# Altium footprint library MY_PCB_Lib.PcbLib: 310 footprints (part 3 of 20)
Each footprint in its own frame and in the unit in brackets; x right, y up, seen from the top. Pads: shape width x height; smd on the part's side, far side on the other; paste and mask are expansions set on the pad; w line width, h text height; cw(c..) or ccw(c..) is an arc to the next point about the centre after c.
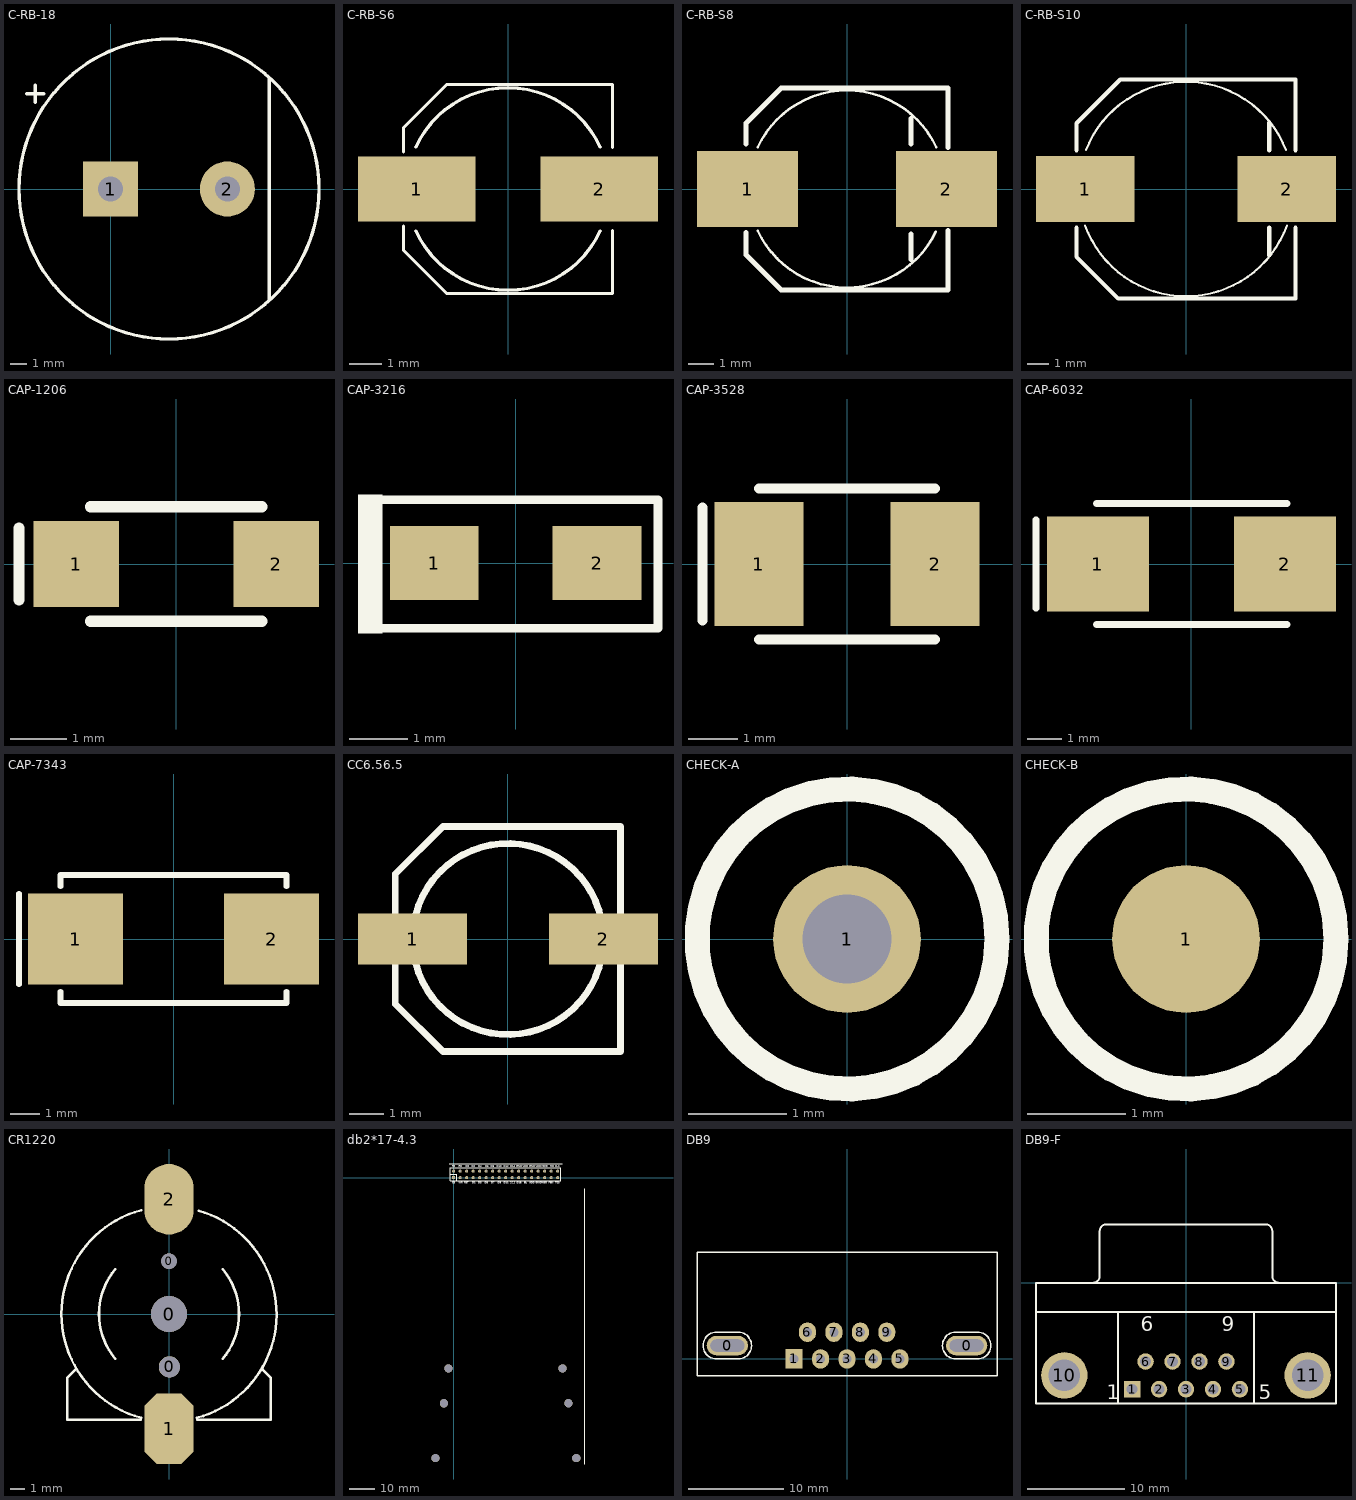
[diagram p2: the footprints below, top view; thin cyan lines are the x and y axes]

## C-RB-18 [mm] "35V2200uF电容"
height 20
pads (2):
  rect 3.3x3.3 hole 1.5: 1(0,0)
  round 3.3 hole 1.5: 2(7,0)
Top Overlay:
  circle w0.2: c3.5,0 r9
  lines w0.2: -5.037,5.715 -4.021,5.715 ; -4.529,5.207 -4.529,6.223 ; 9.525,-6.604 9.525,6.604

## C-RB-S6 [mm] "贴片电解"
height 7
pads (2):
  rect 3.6x2 smd: 1(-2.794,0) 2(2.794,0)
Top Overlay:
  lines w0.1: -3.2,-1.143 -3.2,-1.88 -1.88,-3.2 3.2,-3.2 3.2,-1.27 ; -3.2,1.143 -3.2,1.88 -1.88,3.2 3.2,3.2 3.2,1.27 ; -2.822,-1.283 ccw(c0,0) 2.822,-1.283 ; -2.822,1.283 cw(c0,0) 2.822,1.283

## C-RB-S8 [mm] "贴片电解"
height 10.2
pads (2):
  rect 4x3 smd: 1(-3.937,0) 2(3.937,0)
Top Overlay:
  lines w0.1: -3.539,-1.643 ccw(c0,0) 3.516,-1.693 ; -3.539,1.643 cw(c0,0) 3.539,1.643
  lines w0.2: -4,-1.714 -4,-2.604 -2.604,-4 4,-4 4,-1.651 ; -4,1.778 -4,2.604 -2.604,4 4,4 4,1.651 ; 2.54,-2.794 2.54,-1.778 ; 2.54,1.778 2.54,2.794
3D body: height 0.6, standoff 0, extent -3.937,-3.937 3.937,3.937
3D body: height 10.9, standoff 0.9, extent -3.849,-3.872 3.88,3.872

## C-RB-S10 [mm] "贴片电解"
height 10.2
pads (2):
  rect 4.5x3 smd: 1(-4.6,0) 2(4.6,0)
Top Overlay:
  lines w0.1: -4.609,-1.664 ccw(c0,0) 4.609,-1.664 ; -4.567,1.776 cw(c0,0) 4.567,1.776
  lines w0.2: -5,-1.778 -5,-3.1 -3.1,-5 5,-5 5,-1.778 ; -5,1.778 -5,3 -3,5 5,5 5,1.778 ; 3.8,-3.032 3.8,-1.778 ; 3.8,1.778 3.8,3.032

## CAP-1206 [mil] "贴片元件"
height 59.06
pads (2):
  rect 60x60 smd: 1(-70,0) 2(70,0)
Top Overlay:
  lines w7.87: -110,-25 -110,25 ; -60,-40 60,-40 ; -60,40 60,40
3D body: height 39.37, standoff 0, extent -55,-35 55,35
3D body: height 39.37, standoff 0, extent 45,-35 65,35
3D body: height 39.37, standoff 0, extent -65,-35 -45,35

## CAP-3216 [mil] "钽电容"
height 78.74
pads (2):
  rect 60x50 smd: 1(-55,0) 2(55,0)
Top Overlay:
  region: -90,46.39 -106.46,46.39 -106.46,-47.61 -90,-47.61
  lines w5.91: -94.83,-43.92 96.11,-43.92 96.11,42.69 -94.83,42.69

## CAP-3528 [mm] "钽电容"
height 3
pads (2):
  rect 1.8x2.5 smd: 1(-1.778,0) 2(1.778,0)
Top Overlay:
  lines w0.2: -2.921,-1.143 -2.921,1.143 ; -1.778,1.524 1.778,1.524 ; -1.775,-1.524 1.778,-1.524
3D body: height 1, standoff 0, extent -1.905,-1.397 1.905,1.397
3D body: height 1.1, standoff 0, extent 1.524,-0.953 1.778,0.953

## CAP-6032 [mm] "钽电容"
pads (2):
  rect 3x2.8 smd: 1(-2.75,0) 2(2.75,0)
Top Overlay:
  lines w0.2: -4.572,-1.3 -4.572,1.3 ; -2.794,-1.778 2.806,-1.778 ; -2.794,1.778 2.806,1.778
3D body: height 1, standoff 0, extent 2.921,-1.143 3.175,1.143
3D body: height 1, standoff 0, extent -3.175,-1.143 -2.921,1.143
3D body: height 1.3, standoff 0, extent -2.921,-1.651 2.921,1.651

## CAP-7343 [mm] "钽电容"
height 4
pads (2):
  rect 3.2x3.05 smd: 1(-3.302,0) 2(3.302,0)
Top Overlay:
  lines w0.2: -5.207,-1.524 -5.207,1.524 ; -3.81,-1.778 -3.81,-2.159 3.81,-2.159 3.81,-1.778 ; -3.81,1.778 -3.81,2.159 3.81,2.159 3.81,1.778
3D body: height 2.95, standoff 1.5, extent -3.429,-1.905 -2.921,1.905
3D body: height 2.9, standoff 0, extent -3.429,-1.905 3.429,1.905
3D body: height 1.3, standoff 0, extent -3.683,-1.143 -3.429,1.143
3D body: height 1.3, standoff 0, extent 3.429,-1.143 3.683,1.143

## CC6.56.5 [mm]
pads (2):
  rect 3.2x1.5 smd: 1(-2.794,0) 2(2.8,0)
Top Overlay:
  circle w0.2: c0,0 r2.8
  lines w0.2: -3.302,-1.905 -3.302,1.905 -1.905,3.302 3.302,3.302 3.302,-3.302 -1.905,-3.302 -3.302,-1.905

## CHECK-A [mm] "Connector; Plug"
height 1.45
pads (1):
  round 1.5 hole 0.9: 1(0,0)
Top Overlay:
  circle w0.254: c0,0 r1.524

## CHECK-B [mm] "Connector; Plug"
height 1.45
pads (1):
  round 1.5 smd: 1(0,0)
Top Overlay:
  circle w0.254: c0,0 r1.524

## CR1220 [mm] "钮扣电池"
height 3
pads (5):
  round 2.54 hole 2.54: 0(0,0)
  round 1.1 hole 1.1: 0(0,3.75)
  round 1.5 hole 1.5: 0(0.025,-3.75)
  oct 3.5x5 smd: 1(0,-8.128)
  oval 3.5x5 smd: 2(0,8.128)
Top Overlay:
  lines w0.178: -6.6,-3.9 -7.2,-4.5 -7.2,-7.5 -2,-7.5 ; -3.815,-3.169 cw(c0,0) -3.812,3.172 ; -1.963,-7.363 cw(c0,0) -7.62,0 cw(c0,0) -1.963,7.363 ; 1.963,-7.363 ccw(c0,0) 2.093,7.327 ; 2,-7.5 7.2,-7.5 7.2,-4.5 6.625,-3.925 ; 3.81,-3.175 ccw(c0,0) 3.812,3.172

## db2*17-4.3 [mm]
pads (40):
  rect 1.2x1.2 hole 0.7: 1(-0.002,0.006)
  round 1.2 hole 0.7: 2(-0.002,2.546) 3(2.538,0.006) 4(2.538,2.546) 5(5.08,0) 6(5.078,2.546) 7(7.62,0) 8(7.62,2.54) 9(10.158,0.006) 10(10.158,2.546) 11(12.698,0.006) 12(12.698,2.546) 13(15.238,0.006) 14(15.238,2.546) 15(17.778,0.006) 16(17.778,2.546) 17(20.318,0.006) 18(20.318,2.546) 19(22.858,0.006) 20(22.858,2.546) 21(25.398,0.006) 22(25.398,2.546) 23(27.938,0.006) 24(27.938,2.546) 25(30.478,0.006) 26(30.478,2.546) 27(33.018,0.006) 28(33.018,2.546) 29(35.558,0.006) 30(35.558,2.546) 31(38.098,0.006) 32(38.098,2.546) 33(40.638,0.006) 34(40.638,2.546)
  round 3.2 hole 3.2: ""(-7.125,-109.596) ""(-3.81,-88.18) ""(-2.037,-74.525) ""(42.54,-74.525) ""(44.82,-88.12) ""(47.925,-109.596)
Top Overlay:
  lines w0.203: -1.27,1.27 1.27,1.27 1.27,-1.23 1.32,-1.28 -1.26,-1.28 -1.27,-1.27 -1.27,3.82 41.91,3.82 41.91,-1.26 ; 1.21,-1.28 41.91,-1.28 ; 41.91,-1.25 41.91,-0.95
  lines w0.254: -1.651,5.334 42.418,5.334 ; 51.192,-111.887 51.192,-4.329
  text "BL" at 27.559,-2.286 h0.71
  text "MISO" at 34.29,-2.286 h0.71
  text "TCS" at 39.751,-2.286 h0.71
  text "MO" at 37.65,4.1 h0.71
  text "MOSI" at 34.4,4.1 h0.71
  text "CLK" at 39.65,4.1 h0.71
  text "PEN" at 37.211,-2.286 h0.71
  text "D11" at 19.558,-2.286 h0.71
  text "GND" at 32.004,-2.286 h0.71
  text "GND" at 24.525,4.1 h0.71
  text "RD" at 2.025,4.1 h0.71
  text "D0" at 4.65,4.1 h0.71
  text "D10" at 16.9,4.1 h0.71
  text "VDD" at 27.025,4.1 h0.71
  text "GND" at 29.525,4.1 h0.71
  text "VDD" at 32.15,4.1 h0.71
  text "VDD" at 29.591,-2.286 h0.71
  text "D15" at 24.638,-2.286 h0.71
  text "D12" at 19.525,4.1 h0.71
  text "D13" at 22.025,-2.296 h0.71
  text "D9" at 17.145,-2.286 h0.71
  text "D8" at 14.4,4.1 h0.71
  text "D6" at 12.275,4.1 h0.71
  text "D5" at 12.192,-2.286 h0.71
  text "D4" at 9.65,4.1 h0.71
  text "D3" at 9.652,-2.286 h0.71
  text "D2" at 7.15,4.1 h0.71
  text "D1" at 7.239,-2.286 h0.71
  text "RST" at 4.191,-2.286 h0.71
  text "WR" at 2.032,-2.286 h0.71
  text "CS" at -0.508,-2.286 h0.71
  text "RS" at -0.475,4.1 h0.71
  text "D7" at 14.605,-2.286 h0.71
  text "D14" at 22.025,4.1 h0.71
  text "BL" at 27.557,-2.28 h0.71
  text "MISO" at 34.288,-2.28 h0.71
  text "TCS" at 39.749,-2.28 h0.71
  text "MO" at 37.648,4.106 h0.71
  text "MOSI" at 34.398,4.106 h0.71
  text "CLK" at 39.648,4.106 h0.71
  text "PEN" at 37.209,-2.28 h0.71
  text "D11" at 19.556,-2.28 h0.71
  text "GND" at 32.002,-2.28 h0.71
  text "GND" at 24.523,4.106 h0.71
  text "RD" at 2.023,4.106 h0.71
  text "D0" at 4.648,4.106 h0.71
  text "D10" at 16.898,4.106 h0.71
  text "VDD" at 27.023,4.106 h0.71
  text "GND" at 29.523,4.106 h0.71
  text "VDD" at 32.148,4.106 h0.71
  text "VDD" at 29.589,-2.28 h0.71
  text "D15" at 24.636,-2.28 h0.71
  text "D12" at 19.523,4.106 h0.71
  text "D9" at 17.143,-2.28 h0.71
  text "D8" at 14.398,4.106 h0.71
  text "D6" at 12.273,4.106 h0.71
  text "D5" at 12.19,-2.28 h0.71
  text "D4" at 9.648,4.106 h0.71
  text "D3" at 9.65,-2.28 h0.71
  text "D2" at 7.148,4.106 h0.71
  text "D1" at 7.237,-2.28 h0.71
  text "RST" at 4.189,-2.28 h0.71
  text "WR" at 2.03,-2.28 h0.71
  text "CS" at -0.51,-2.28 h0.71
  text "RS" at -0.477,4.106 h0.71
  text "D7" at 14.603,-2.28 h0.71
  text "D14" at 22.023,4.106 h0.71

## DB9 [mil]
pads (11):
  oval 170x80 hole 50 slot 140 at 0 deg: 0(-493,55) 0(493,55)
  rect 70x80 hole 38: 1(-218,0)
  oval 70x80 hole 38: 2(-109,0) 3(0,0) 4(109,0) 5(218,0) 6(-163,110) 7(-54,110) 8(55,110) 9(164,110)
Top Overlay:
  lines w6: -618,-70 -618,440 618,440 618,-70 -618,-70 ; -538,0 cw(c-538,55) -538,110 -448,110 cw(c-448,55) -448,0 -538,0 ; 448,0 cw(c448,55) 448,110 538,110 cw(c538,55) 538,0 448,0

## DB9-F [mm] "DB9母座"
height 12.75
pads (11):
  rect 1.69x1.69 hole 1.09: 1(-5.54,-10.92)
  round 1.69 hole 1.09: 2(-2.77,-10.92) 3(0,-10.92) 4(2.77,-10.92) 5(5.54,-10.92) 6(-4.155,-8.08) 7(-1.385,-8.08) 8(1.385,-8.08) 9(4.155,-8.08)
  round 4.76 hole 3.26: 10(-12.495,-9.5) 11(12.495,-9.5)
Top Overlay:
  lines w0.2: -15.4,-3 15.4,-3 ; -9.56,0.005 ccw(c-9.56,0.7) -8.865,0.7 -8.865,5.3 ; -8.86,5.305 cw(c-8.165,5.305) -8.165,6 8.165,6 cw(c8.165,5.305) 8.86,5.305 ; -7,-12.4 -7,-3 ; 7,-12.4 7,-3 ; 8.865,5.3 8.865,0.7 ccw(c9.56,0.7) 9.56,0.005 ; -15.4,-12.4 15.4,-12.4 15.4,0 -15.4,0 -15.4,-12.4
  text "6" at -4.655,-4.975 h1.5
  text "9" at 3.655,-4.975 h1.5
  text "5" at 7.493,-11.938 h1.5
  text "1" at -8.128,-11.938 h1.5